# Altium footprint library ES_Pcb_x.PcbLib: 354 footprints (part 16 of 23)
Each footprint in its own frame and in the unit in brackets; x right, y up, seen from the top. Pads: shape width x height; smd on the part's side, far side on the other; paste and mask are expansions set on the pad; w line width, h text height; cw(c..) or ccw(c..) is an arc to the next point about the centre after c.
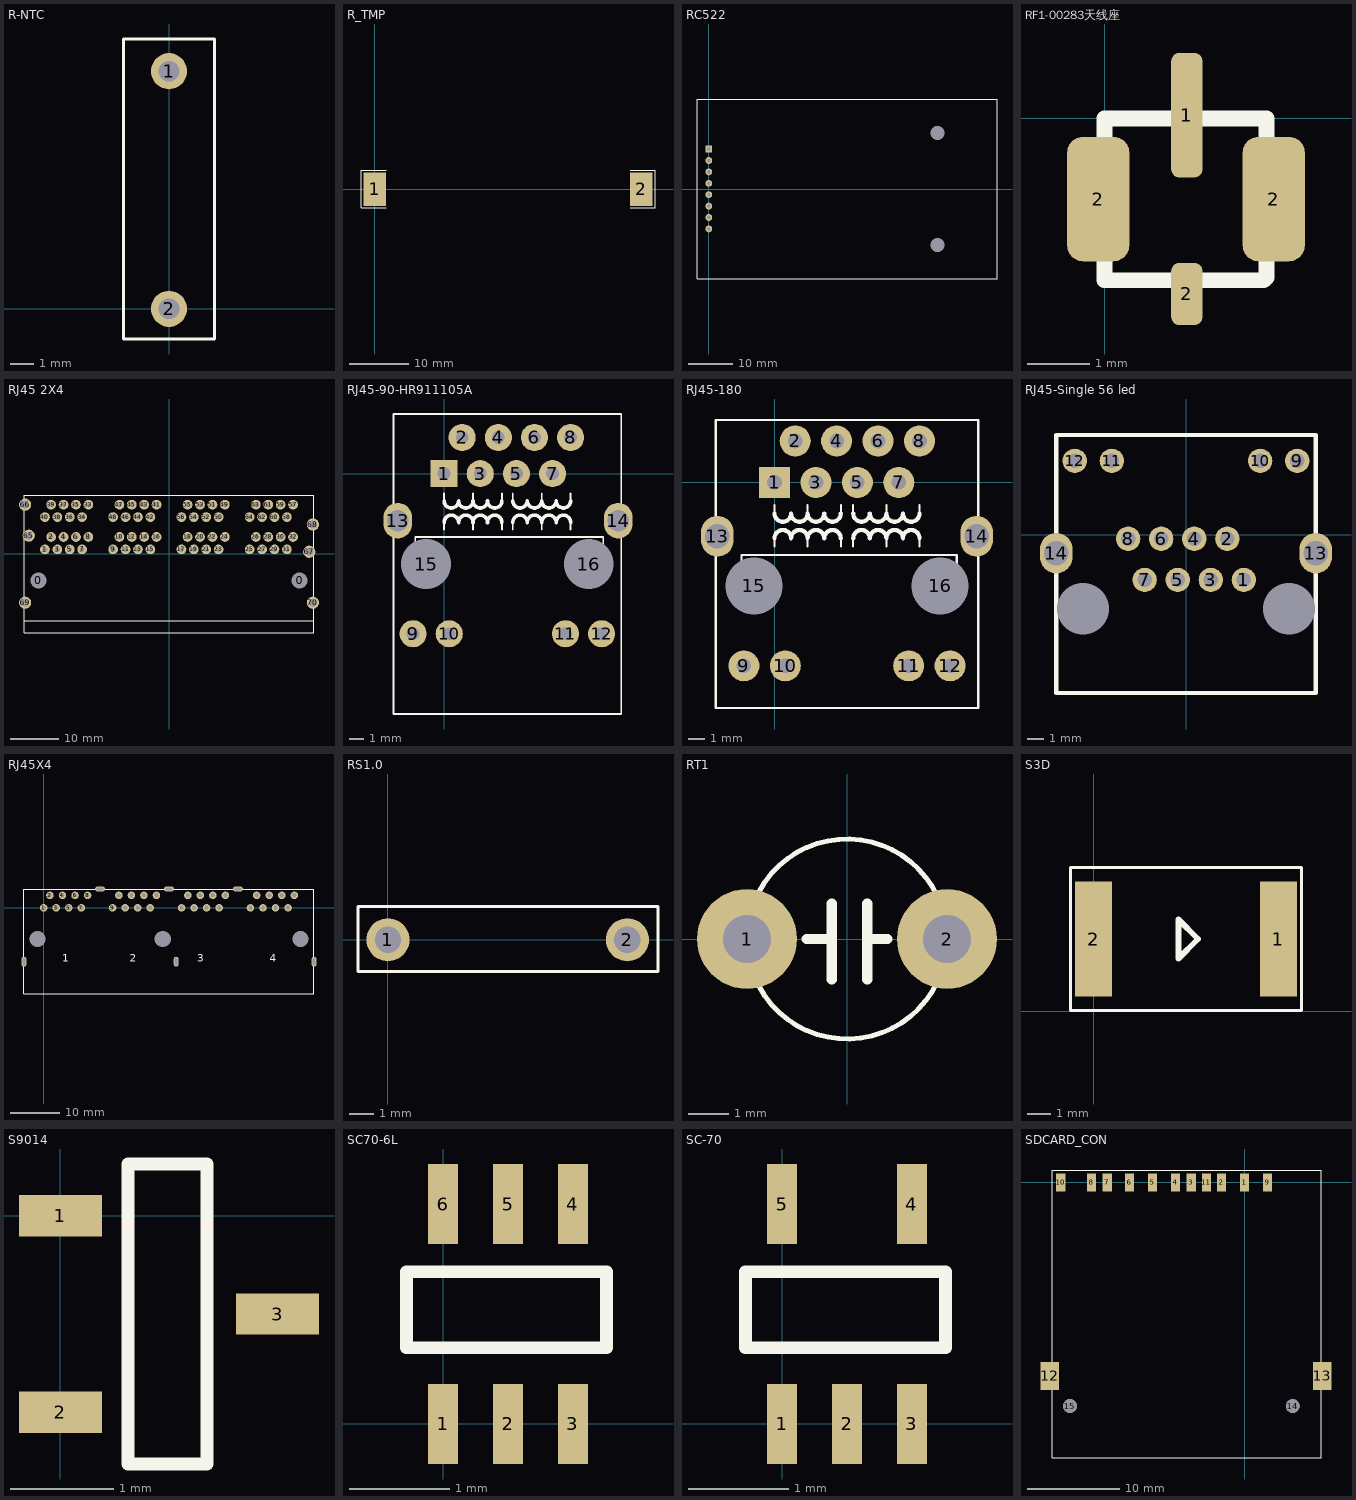
[diagram p15: the footprints below, top view; thin cyan lines are the x and y axes]

## R-NTC [mil]
pads (2):
  round 60 hole 34: 1(0,393.7) 2(0,0)
Top Overlay:
  lines w5: -75,-50 -75,447 75,447 75,-50 -75,-50

## R_TMP [mil]
pads (2):
  rect 150x220 smd: 1(0,0) 2(1771.65,0)
Top Overlay:
  lines w5: 76.77,125 -89.57,125 -89.57,-122.05 77.76,-122.05 ; 1695.87,-122.05 1863.19,-122.05 1863.19,125 1696.85,125

## RC522 [mil]
pads (10):
  rect 60x60 hole 34: 1(0,350)
  round 60 hole 34: 2(0,250) 3(0,150) 4(0,50) 5(0,-50) 6(0,-150) 7(0,-250) 8(0,-350)
  round 118.11 hole 125.98: ""(2007.87,-492.13) ""(2007.87,492.13)
Top Overlay:
  lines w5: -103.35,-787.4 2530.51,-787.4 2530.51,787.4 -103.35,787.4 -103.35,-787.4

## RF1-00283天线座 [mm]
pads (4):
  rrect50% 0.5x2 smd: 1(1.321,0.051)
  rrect50% 1x2 smd: 2(-0.102,-1.295) 2(2.718,-1.295)
  rrect50% 0.5x1 smd: 2(1.321,-2.819)
Top Overlay:
  lines w0.254: 2.6,-2.464 2.6,0 ; 2.6,0 2.6,-2.556 2.556,-2.6 0,-2.6 0,0 2.6,0

## RJ45 2X4 [mm]
pads (72):
  round 3 hole 3.25: 0(-26.72,-5.465) 0(26.72,-5.465)
  round 2 hole 1: 1(-25.4,0.885) 2(-24.13,3.425) 3(-22.86,0.885) 4(-21.59,3.425) 5(-20.32,0.885) 6(-19.05,3.425) 7(-17.78,0.885) 8(-16.51,3.425) 9(-11.43,0.885) 10(-10.16,3.425) 11(-8.89,0.885) 12(-7.62,3.425) 13(-6.35,0.885) 14(-5.08,3.425) 15(-3.81,0.885) 16(-2.54,3.425) 17(2.54,0.885) 18(3.81,3.425) 19(5.08,0.885) 20(6.35,3.425) 21(7.62,0.885) 22(8.89,3.425) 23(10.16,0.885) 24(11.43,3.425) 25(16.51,0.885) 26(17.78,3.425) 27(19.05,0.885) 28(20.32,3.425) 29(21.59,0.885) 30(22.86,3.425) 31(24.13,0.885) 32(25.4,3.425) 33(-16.51,10.025) 34(-17.78,7.485) 35(-19.05,10.025) 36(-20.32,7.485) 37(-21.59,10.025) 38(-22.86,7.485) 39(-24.13,10.025) 40(-25.4,7.485) 41(-2.54,10.025) 42(-3.81,7.485) 43(-5.08,10.025) 44(-6.35,7.485) 45(-7.62,10.025) 46(-8.89,7.485) 47(-10.16,10.025) 48(-11.43,7.485) 49(11.43,10.025) 50(10.16,7.485) 51(8.89,10.025) 52(7.62,7.485) 53(6.35,10.025) 54(5.08,7.485) 55(3.81,10.025) 56(2.54,7.485) 57(25.4,10.025) 58(24.13,7.485) 59(22.86,10.025) 60(21.59,7.485) 61(20.32,10.025) 62(19.05,7.485) 63(17.78,10.025) 64(16.51,7.485)
  round 2.5 hole 1.6: 65(-28.71,3.685) 66(-29.46,10.035) 67(28.71,0.385) 68(29.46,5.965) 69(-29.46,-10.035) 70(29.46,-10.035)
Top Overlay:
  lines w0.2: -29.6,-13.7 29.6,-13.7 ; -29.6,-16.215 29.6,-16.215 29.6,11.985 -29.6,11.985 -29.6,-16.215

## RJ45-90-HR911105A [mm]
pads (16):
  rect 1.905x1.905 hole 0.9: 1(0,0)
  round 1.905 hole 0.9: 2(1.27,2.54) 3(2.54,0) 4(3.81,2.54) 5(5.08,0) 6(6.35,2.54) 7(7.62,0) 8(8.89,2.54) 9(-2.18,-11.25) 10(0.36,-11.25) 11(8.53,-11.25) 12(11.07,-11.25)
  oval 2x2.5 hole 1.5: 13(-3.25,-3.3) 14(12.23,-3.3)
  round 3.302 hole 3.5: 15(-1.27,-6.35) 16(10.16,-6.35)
Top Overlay:
  lines w0.127: -2.032,-4.953 -2.032,-4.445 11.176,-4.445 11.176,-4.953 ; 0,-3.937 0,-3.429 ; 0,-1.905 0,-1.397 ; 2.032,-3.937 2.032,-3.429 ; 2.032,-1.905 2.032,-1.397 ; 4.064,-3.937 4.064,-3.429 ; 4.064,-1.905 4.064,-1.397 ; 4.826,-3.937 4.826,-3.429 ; 4.826,-1.905 4.826,-1.397 ; 6.858,-3.937 6.858,-3.429 ; 6.858,-1.905 6.858,-1.397 ; 8.89,-3.937 8.89,-3.429 ; 8.89,-1.905 8.89,-1.397 ; -3.556,-16.889 12.446,-16.889 12.446,4.191 -3.556,4.191 -3.556,-16.889
  lines w0.254: 0,-3.429 cw(c0.508,-3.429) 1.016,-3.429 cw(c1.524,-3.429) 2.032,-3.429 cw(c2.54,-3.429) 3.048,-3.429 cw(c3.556,-3.429) 4.064,-3.429 ; 0,-1.905 ccw(c0.508,-1.905) 1.016,-1.905 ccw(c1.524,-1.905) 2.032,-1.905 ccw(c2.54,-1.905) 3.048,-1.905 ccw(c3.556,-1.905) 4.064,-1.905 ; 4.826,-3.429 cw(c5.334,-3.429) 5.842,-3.429 cw(c6.35,-3.429) 6.858,-3.429 cw(c7.366,-3.429) 7.874,-3.429 cw(c8.382,-3.429) 8.89,-3.429 ; 4.826,-1.905 ccw(c5.334,-1.905) 5.842,-1.905 ccw(c6.35,-1.905) 6.858,-1.905 ccw(c7.366,-1.905) 7.874,-1.905 ccw(c8.382,-1.905) 8.89,-1.905

## RJ45-180 [mm]
pads (16):
  rect 1.905x1.905 hole 0.9: 1(0,0)
  round 1.905 hole 0.9: 2(1.27,2.54) 3(2.54,0) 4(3.81,2.54) 5(5.08,0) 6(6.35,2.54) 7(7.62,0) 8(8.89,2.54) 9(-1.88,-11.25) 10(0.66,-11.25) 11(8.23,-11.25) 12(10.77,-11.25)
  oval 2x2.5 hole 1.5: 13(-3.505,-3.3) 14(12.395,-3.3)
  round 3.302 hole 3.5: 15(-1.27,-6.35) 16(10.16,-6.35)
Top Overlay:
  lines w0.127: -2.032,-4.953 -2.032,-4.445 11.176,-4.445 11.176,-4.953 ; 0,-3.937 0,-3.429 ; 0,-1.905 0,-1.397 ; 2.032,-3.937 2.032,-3.429 ; 2.032,-1.905 2.032,-1.397 ; 4.064,-3.937 4.064,-3.429 ; 4.064,-1.905 4.064,-1.397 ; 4.826,-3.937 4.826,-3.429 ; 4.826,-1.905 4.826,-1.397 ; 6.858,-3.937 6.858,-3.429 ; 6.858,-1.905 6.858,-1.397 ; 8.89,-3.937 8.89,-3.429 ; 8.89,-1.905 8.89,-1.397 ; -3.605,-13.85 -3.605,3.84 12.495,3.84 12.495,-13.85 -3.605,-13.85
  lines w0.254: 0,-3.429 cw(c0.508,-3.429) 1.016,-3.429 cw(c1.524,-3.429) 2.032,-3.429 cw(c2.54,-3.429) 3.048,-3.429 cw(c3.556,-3.429) 4.064,-3.429 ; 0,-1.905 ccw(c0.508,-1.905) 1.016,-1.905 ccw(c1.524,-1.905) 2.032,-1.905 ccw(c2.54,-1.905) 3.048,-1.905 ccw(c3.556,-1.905) 4.064,-1.905 ; 4.826,-3.429 cw(c5.334,-3.429) 5.842,-3.429 cw(c6.35,-3.429) 6.858,-3.429 cw(c7.366,-3.429) 7.874,-3.429 cw(c8.382,-3.429) 8.89,-3.429 ; 4.826,-1.905 ccw(c5.334,-1.905) 5.842,-1.905 ccw(c6.35,-1.905) 6.858,-1.905 ccw(c7.366,-1.905) 7.874,-1.905 ccw(c8.382,-1.905) 8.89,-1.905

## RJ45-Single 56 led [mm]
pads (16):
  round 1.5 hole 0.9: 1(3.57,-2.78) 2(2.55,-0.24) 3(1.53,-2.78) 4(0.51,-0.24) 5(-0.51,-2.78) 6(-1.53,-0.24) 7(-2.55,-2.78) 8(-3.57,-0.24) 9(6.86,4.56) 10(4.57,4.56) 11(-4.57,4.56) 12(-6.86,4.56)
  oval 2x2.5 hole 1.5: 13(8,-1.13) 14(-8,-1.13)
  round 3 hole 3.2: ""(-6.35,-4.56) ""(6.35,-4.56)
Top Overlay:
  lines w0.254: -8,-9.76 8,-9.76 8,6.166 -8,6.166 -8,-9.76

## RJ45X4 [mil]
pads (41):
  round 50 hole 127.95: 0(-50,-250) 0(950,-250) 0(2050,-250)
  round 60 hole 34: 1(0,0) 2(50,100) 3(100,0) 4(150,100) 5(200,0) 6(250,100) 7(300,0) 8(350,100) 9(550,0) 10(600,100) 11(650,0) 12(700,100) 13(750,0) 14(800,100) 15(850,0) 16(900,100) 17(1100,0) 18(1150,100) 19(1200,0) 20(1250,100) 21(1300,0) 22(1350,100) 23(1400,0) 24(1450,100) 25(1650,0) 26(1700,100) 27(1750,0) 28(1800,100) 29(1850,0) 30(1900,100) 31(1950,0) 32(2000,100)
  oval 78.74x39.37 hole 19.68 slot 55.12 at 0 deg: 33(450,150) 33(1000,150) 33(1550,150)
  oval 39.37x78.74 hole 19.68 slot 55.12 at 90 deg: 34(-157.68,-429.92) 34(1057.48,-429.92) 34(2157.68,-429.92)
Top Overlay:
  lines w5: -158,-687 -158,150 2157,150 2157,-687 -158,-687
  text "4" at 1804,-429.92 h60
  text "3" at 1226,-429.92 h60
  text "2" at 685,-429.92 h60
  text "1" at 148,-429.92 h60

## RS1.0 [mm]
pads (2):
  round 1.8 hole 1.1: 1(0,0) 2(10,0)
Top Overlay:
  lines w0.127: -1.251,-1.321 11.278,-1.321 11.278,1.389 -1.251,1.389 -1.251,-1.321

## RT1 [mm]
pads (2):
  round 2.5 hole 1.2: 1(-2.5,0) 2(2.5,0)
Top Overlay:
  circle w0.127: c0,0 r2.5
  lines w0.254: -1.016,0 -0.381,0 ; -0.381,-1.016 -0.381,0.889 ; 0.508,-1.016 0.508,0.889 ; 0.508,0 1.016,0

## S3D [mm]
pads (2):
  rect 1.6x5 smd: 1(8,3.124) 2(0,3.124)
Top Overlay:
  lines w0.127: -1,0.024 5.6,0.024 9,0.024 9,6.224 -1,6.224 -1,0.024
  lines w0.254: 3.67,2.273 4.521,3.124 3.67,3.975 3.67,2.299

## S9014 [mm]
pads (3):
  rect 0.8x0.4 smd: 1(0,0) 2(0,-1.9) 3(2.1,-0.95)
Top Overlay:
  lines w0.127: 0.654,-2.4 1.416,-2.4 1.416,0.5 0.654,0.5 0.654,-2.4

## SC70-6L [mm]
pads (6):
  rect 0.3x0.8 smd: 1(0,0) 2(0.65,0) 3(1.3,0) 4(1.3,2.2) 5(0.65,2.2) 6(0,2.2)
Top Overlay:
  lines w0.127: -0.365,0.762 -0.365,1.524 1.635,1.524 1.635,0.762 -0.365,0.762

## SC-70 [mm]
pads (5):
  rect 0.3x0.8 smd: 1(0,0) 2(0.65,0) 3(1.3,0) 4(1.3,2.2) 5(0,2.2)
Top Overlay:
  lines w0.127: -0.365,0.762 1.635,0.762 1.635,1.524 -0.365,1.524 -0.365,0.762

## SDCARD_CON [mm]
pads (15):
  rect 1x2 smd: 1(0,0) 2(-2.5,0) 3(-5.8,0) 4(-7.5,0) 5(-10,0) 6(-12.5,0) 7(-14.925,0) 8(-16.625,0) 9(2.5,0) 10(-19.975,0) 11(-4.15,0)
  rect 2x3 smd: 12(-21.159,-21.023) 13(8.432,-21.023)
  round 1.5 hole 1.5 unplated: 14(5.225,-24.3) 15(-18.975,-24.3)
Top Overlay:
  lines w0.127: -20.9,-29.89 -20.9,1.31 8.305,1.31 8.305,-29.89 -20.9,-29.89